# Altium footprint library Trans_Coilcraft_DA2319-ALC_SOP-6.PcbLib: 1 footprints
Each footprint in its own frame and in the unit in brackets; x right, y up, seen from the top. Pads: shape width x height; smd on the part's side, far side on the other; paste and mask are expansions set on the pad; w line width, h text height; cw(c..) or ccw(c..) is an arc to the next point about the centre after c.
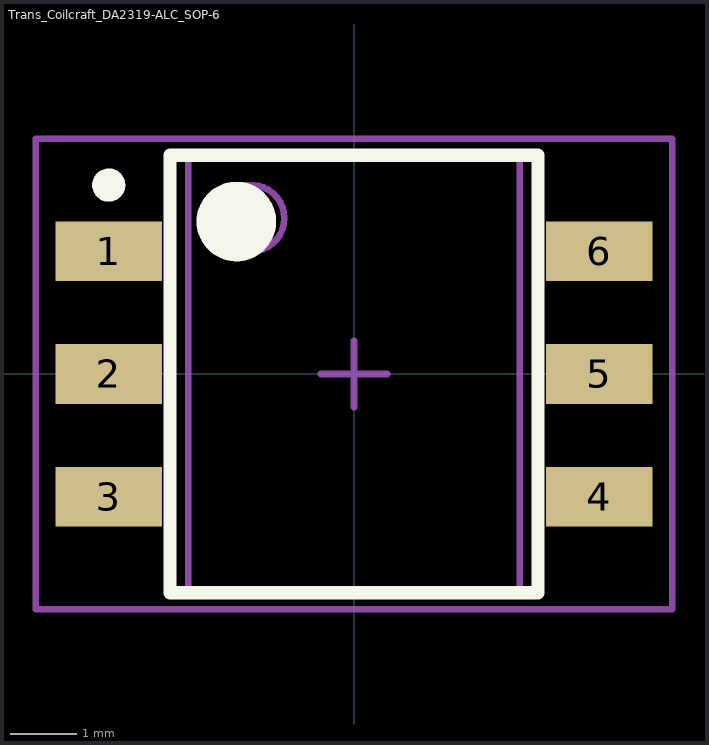
[diagram p0: the footprint, top view; thin cyan lines are the x and y axes]

## Trans_Coilcraft_DA2319-ALC_SOP-6 [mm]
height 5.4
pads (6):
  rect 1.6x0.9 smd: 1(-3.7,1.85) 2(-3.7,0) 3(-3.7,-1.85) 4(3.7,-1.85) 5(3.7,0) 6(3.7,1.85)
Top Overlay:
  circle w0.6: c-1.775,2.3 r0.3
  circle w0.25: c-3.7,2.85 r0.125
  lines w0.2: -2.775,-3.3 2.775,-3.3 2.775,3.3 -2.775,3.3 -2.775,-3.3
Mechanical 13:
  circle w0.1: c-1.55,2.35 r0.5
  lines w0.1: -2.5,-3.3 2.5,-3.3 2.5,3.3 -2.5,3.3 -2.5,-3.3
Mechanical 15:
  lines w0.1: -0.5,0 0.5,0 ; 0,-0.5 0,0.5 ; -4.8,-3.55 4.8,-3.55 4.8,3.55 -4.8,3.55 -4.8,-3.55
3D body: height 5.4, standoff 0, extent -2.5,-3.3 2.5,3.3